# Altium footprint library 687 3xx 124 422.PcbLib: 17 footprints (part 2 of 2)
Each footprint in its own frame and in the unit in brackets; x right, y up, seen from the top. Pads: shape width x height; smd on the part's side, far side on the other; paste and mask are expansions set on the pad; w line width, h text height; cw(c..) or ccw(c..) is an arc to the next point about the centre after c.
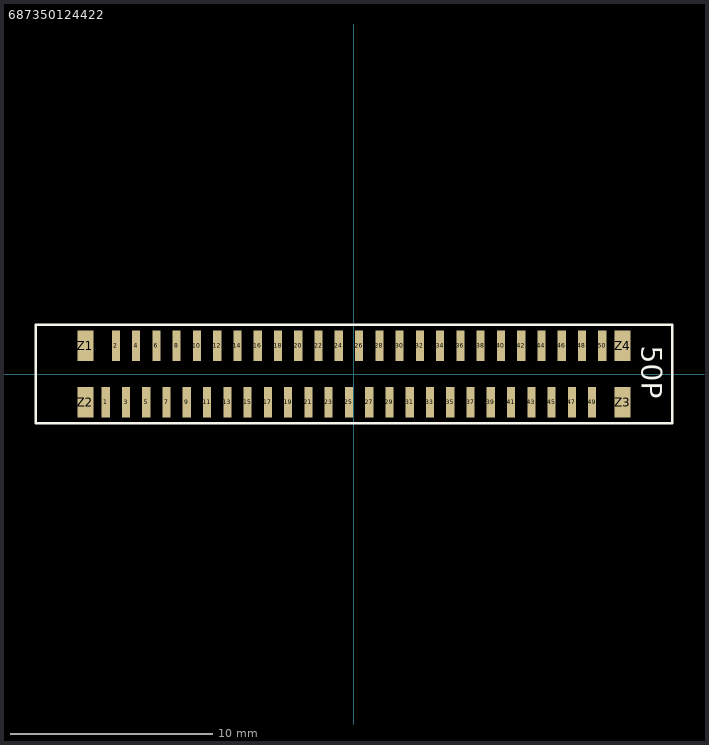
[diagram p1: the footprint, top view; thin cyan lines are the x and y axes]

## 687350124422 [mm] "50 pins T&R with Cap"
height 4.3
pads (54):
  rect 0.4x1.5 smd: 1(-12.25,-1.4) 2(-11.75,1.4) 3(-11.25,-1.4) 4(-10.75,1.4) 5(-10.25,-1.4) 6(-9.75,1.4) 7(-9.25,-1.4) 8(-8.75,1.4) 9(-8.25,-1.4) 10(-7.75,1.4) 11(-7.25,-1.4) 12(-6.75,1.4) 13(-6.25,-1.4) 14(-5.75,1.4) 15(-5.25,-1.4) 16(-4.75,1.4) 17(-4.25,-1.4) 18(-3.75,1.4) 19(-3.25,-1.4) 20(-2.75,1.4) 21(-2.25,-1.4) 22(-1.75,1.4) 23(-1.25,-1.4) 24(-0.75,1.4) 25(-0.25,-1.4) 26(0.25,1.4) 27(0.75,-1.4) 28(1.25,1.4) 29(1.75,-1.4) 30(2.25,1.4) 31(2.75,-1.4) 32(3.25,1.4) 33(3.75,-1.4) 34(4.25,1.4) 35(4.75,-1.4) 36(5.25,1.4) 37(5.75,-1.4) 38(6.25,1.4) 39(6.75,-1.4) 40(7.25,1.4) 41(7.75,-1.4) 42(8.25,1.4) 43(8.75,-1.4) 44(9.25,1.4) 45(9.75,-1.4) 46(10.25,1.4) 47(10.75,-1.4) 48(11.25,1.4) 49(11.75,-1.4) 50(12.25,1.4)
  rect 0.8x1.5 smd: Z1(-13.25,1.4) Z2(-13.25,-1.4) Z3(13.25,-1.4) Z4(13.25,1.4)
Top Overlay:
  lines w0.127: -15.7,-2.42 -15.7,2.42 15.7,2.42 15.7,-2.42 -15.7,-2.42
  text "50P" at 14.196,1.386 h1
3D body: height 4.31, standoff 0.01, extent -15.7,-1.75 15.7,1.779